# EAGLE library part MMA845 (library SmartMDCPrint)
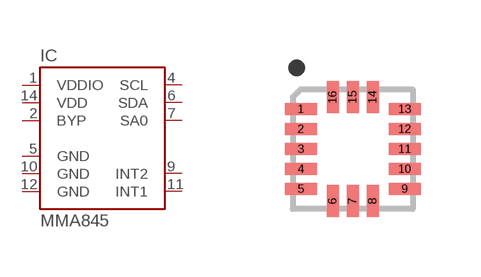
[diagram p12: symbol with the pads of QFN-16; footprint QFN-16]

Designator prefix IC

## MMA8452Q  [QFN-16]
1  VDDIO  pwr
2  BYP  in
4  SCL  in
5  GND  pwr
6  SDA
7  SA0  in
9  INT2  out
10  GND  pwr
11  INT1  out
12  GND  pwr
14  VDD  pwr

## MMA8451Q  [QFN-16]
Pads as for QFN-16

## Footprint QFN-16 (pad centres in mm)
QFN-16 Add optional tRestrict rectangle from -30 x -30 mil to 30 x 30 mil
smd 0.8 x 0.3: 1 -1.3,1; 2 -1.3,0.5; 3 -1.3,0; 4 -1.3,-0.5; 5 -1.3,-1; 9 1.3,-1; 10 1.3,-0.5; 11 1.3,0; 12 1.3,0.5; 13 1.3,1
smd 0.3 x 0.8: 6 -0.5,-1.3; 7 0,-1.3; 8 0.5,-1.3; 14 0.5,1.3; 15 0,1.3; 16 -0.5,1.3